# EAGLE library part 686115148922 (library Eagle_FPC_CONNECTOR_AND_FFC_CAB (rev18c))
WR-FPC 1mm SMT Horiz. Bot. Contact Hinge type WR-FPC 1mm 15 pins Hinge type SMT Horizontal Bottom Contact ;=>Code : Con_FPC_ZIF_1.00_6861xx148922_686115148922 <http://katalog.we-online.de/media/images/eican/Con_FPC_ZIF_1.00_686110148922_pf2.jpg> Details see: http://katalog.we-online.de/em/datasheet/6861xx148922.pdf Created 2014-10-08, Karrer Zheng 2014 (C) Wurth Elektronik
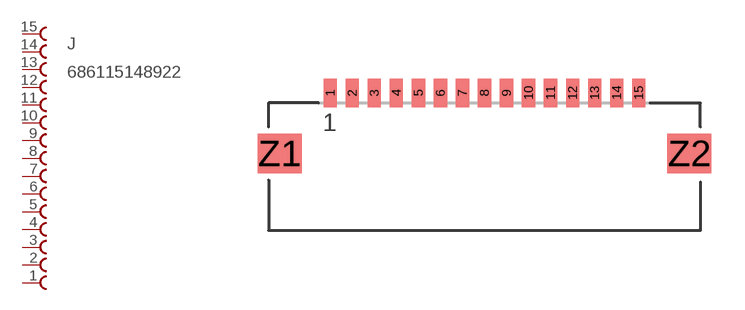
[diagram p95: symbol with the pads of 686115148922; footprint 686115148922]

Designator prefix J

## 686115148922  [686115148922]
1  15  pas
2  14  pas
3  13  pas
4  12  pas
5  11  pas
6  10  pas
7  9  pas
8  8  pas
9  7  pas
10  6  pas
11  5  pas
12  4  pas
13  3  pas
14  2  pas
15  1  pas

## Footprint 686115148922 (pad centres in mm)
WR-FPC 1mm SMT Horiz. Bot. Contact Hinge type WR-FPC 1mm 15pins Hinge type SMT Horizontal Bottom Contact
smd 0.6 x 1.3: 1 -7,2.75; 2 -6,2.75; 3 -5,2.75; 4 -4,2.75; 5 -3,2.75; 6 -2,2.75; 7 -1,2.75; 8 0,2.75; 9 1,2.75; 10 2,2.75; 11 3,2.75; 12 4,2.75; 13 5,2.75; 14 6,2.75; 15 7,2.75
smd 2 x 1.8: Z1 -9.3,0; Z2 9.3,0